# EAGLE library part SD_MICRO (library Kolja)
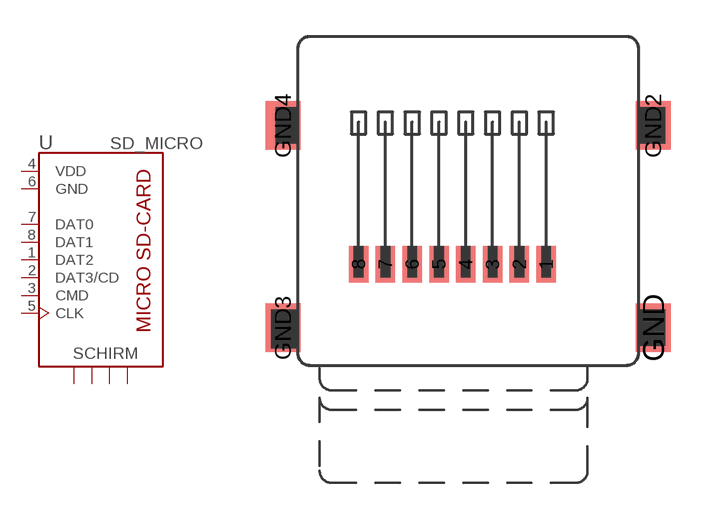
[diagram p6: symbol with the pads of SD_MICRO; footprint SD_MICRO]

Designator prefix -

## SD_MICRO  [SD_MICRO]
1  DAT2
2  DAT3/CD
3  CMD
4  VDD
5  CLK
6  GND
7  DAT0
8  DAT1
GND  SCHIRM1
GND2  SCHIRM2
GND3  SCHIRM3
GND4  SCHIRM

## Footprint SD_MICRO (pad centres in mm)
smd 0.8 x 1.5: 1 3.2,-9.35; 2 2.1,-9.35; 3 1,-9.35; 4 -0.1,-9.35; 5 -1.2,-9.35; 6 -2.3,-9.35; 7 -3.4,-9.35; 8 -4.5,-9.35
smd 1.45 x 2: GND 7.6,-11.95; GND2 7.6,-3.65; GND3 -7.6,-11.95; GND4 -7.6,-3.65